# Altium schematic symbol library BasicosyConectores.SchLib: 25 symbols
Pins are listed as number, name and electrical type; pins without a type are passive.

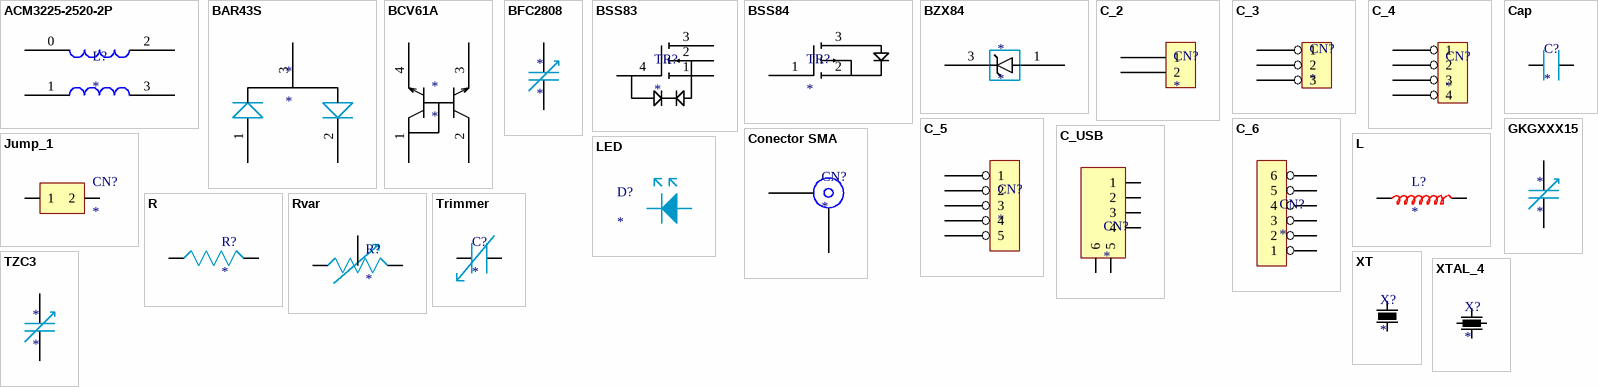
[diagram p0: symbols ACM3225-2520-2P to XTAL_4]

## ACM3225-2520-2P
designator L?
footprint ACM3225.2520-2P
pins: 0, 1, 2, 3

## BAR43S
designator *
footprint BAR43S
pins: 1, 2, 3

## BCV61A
designator *
footprint BCV61A
pins: 1, 2, 3, 4

## BFC2808
designator *
footprint BFC2808
pins: 0, 1

## BSS83
designator TR?
footprint BSS83
pins: 1 s, 2 b, 3 d, 4 g

## BSS84
designator TR?
footprint SOT_23 (SOT 23)
pins: 1 g, 2 s, 3 d

## BZX84
designator *
footprint BZX84
pins: 1, 3

## C_2
designator CN?
Conector 2 pines
footprint 2x1 Pin Array
pins: 1, 2

## C_3
designator CN?
Conector 3 pines
pins: 1, 2, 3

## C_4
designator CN?
Conector 4 pines
pins: 0 1, 2, 3, 4

## C_5
designator CN?
Conector 5 pines
pins: 0 1, 2, 3, 4, 5

## C_6
designator CN?
Connector 6 pins
pins: 1, 2, 3, 4, 5, 6

## C_USB
designator CN?
Conector USB
pins: 1, 2, 3, 4, 5 (power), 6

## Cap
designator C?
Ceramic Capacitor
footprint C_1210
pins: 1, 2

## Conector SMA
designator CN?
Conector 2 pines
footprint Conector SMA
pins: 0, 1

## GKGXXX15
designator *
pins: 0, 1

## Jump_1
designator CN?
Conector 2 pines
footprint 2x1 Pin Array
pins: 1, 2

## L
designator L?
SMD Inductor
pins: 1, 2
1 alternate drawing of the same symbol

## LED
designator D?
Diode Led
pins: 1, 2

## R
designator R?
Chip Resistor
footprint R_1210
pins: 1, 2
1 alternate drawing of the same symbol

## Rvar
designator R?
SMD Potentiometer
pins: 1, 2, 3
1 alternate drawing of the same symbol

## Trimmer
designator C?
Capacitor Variable
footprint TZY2
pins: 1, 2

## TZC3
designator *
pins: 0, 1

## XT
designator X?
Cristal
footprint XT_MA_505 (Crystal SMD MA-505)
pins: 1, 2

## XTAL_4
designator X?
Cristal
pins: 1, 2, 3, 4